# EAGLE library part VN5E160MSTR-E (library VN5E160MSTR-E)
Gate Drivers SNGL CH HI-SIDE DRVR W/ANALOG CRRNT SNSE Source: Datasheet <https://componentsearchengine.com/Datasheets/2/VN5E160MSTR-E.pdf>
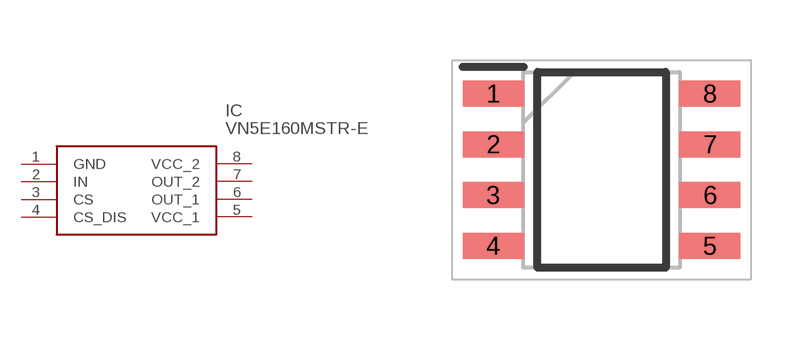
[diagram p0: symbol with the pads of SOIC127P600X175-8N; footprint SOIC127P600X175-8N]

Designator prefix IC

## VN5E160MSTR-E (Description: Gate Drivers SNGL CH HI-SIDE DRVR W/ANALOG CRRNT SNSE; Height: 1.75mm; Manufacturer_Name: STMicroelectronics; Manufacturer_Part_Number: VN5E160MSTR-E; Mouser_Part_Number: 511-VN5E160MSTR-E; Mouser_Price-Stock: https://www.mouser.co.uk/ProductDetail/STMicroelectronics/VN5E160MSTR-E?qs=WSSg0AwdCh77XxtxsYEeyw%3D%3D)  [SOIC127P600X175-8N]
1  GND
2  IN
3  CS
4  CS_DIS
5  VCC_1
6  OUT_1
7  OUT_2
8  VCC_2

## Footprint SOIC127P600X175-8N (pad centres in mm)
so-8--ren1
smd 1.525 x 0.65: 1 -2.712,1.905; 2 -2.712,0.635; 3 -2.712,-0.635; 4 -2.712,-1.905; 5 2.712,-1.905; 6 2.712,-0.635; 7 2.712,0.635; 8 2.712,1.905